# EAGLE library part 62201421121 (library Eagle_BOARD-TO-BOARD_CONNECTORS (rev18b))
WR-PHD 1.27mm Dual Pin Header, 14 Pins=>Code : Con_BTB_PHD_1.27_2_62201421121 <http://katalog.we-online.de/media/thumbs2/eican/thb_Con_BTB_PHD_1.27_2_6220xx21121_pf2.jpg> Details see: http://katalog.we-online.de/en/em/622_0xx_211_21 Created 2014-06-03, Karrer Zheng 2014 (C) Würth Elektronik
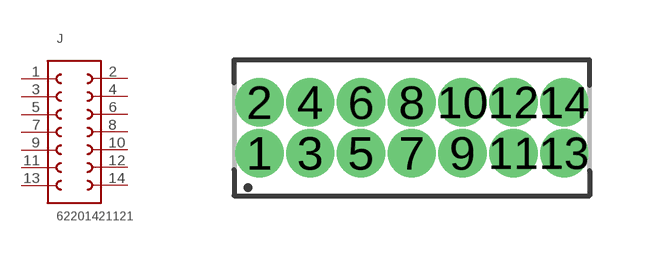
[diagram p273: symbol with the pads of 62201421121; footprint 62201421121]

Designator prefix J

## 62201421121  [62201421121]
1  1  pas
2  14  pas
3  2  pas
4  13  pas
5  3  pas
6  12  pas
7  4  pas
8  11  pas
9  5  pas
10  10  pas
11  6  pas
12  9  pas
13  7  pas
14  8  pas

## Footprint 62201421121 (pad centres in mm)
WR-PHD 1.27mm Dual Pin Header, 14 Pins
drill 0.7: 1 -4.445,-0.635; 2 -4.445,0.635; 3 -3.175,-0.635; 4 -3.175,0.635; 5 -1.905,-0.635; 6 -1.905,0.635; 7 -0.635,-0.635; 8 -0.635,0.635; 9 0.635,-0.635; 10 0.635,0.635; 11 1.905,-0.635; 12 1.905,0.635; 13 3.175,-0.635; 14 3.175,0.635